# Altium integrated library Texas Instruments Interface USB.IntLib: 91 symbols (part 1 of 12)
Pins are listed as number, name and electrical type; pins without a type are passive.

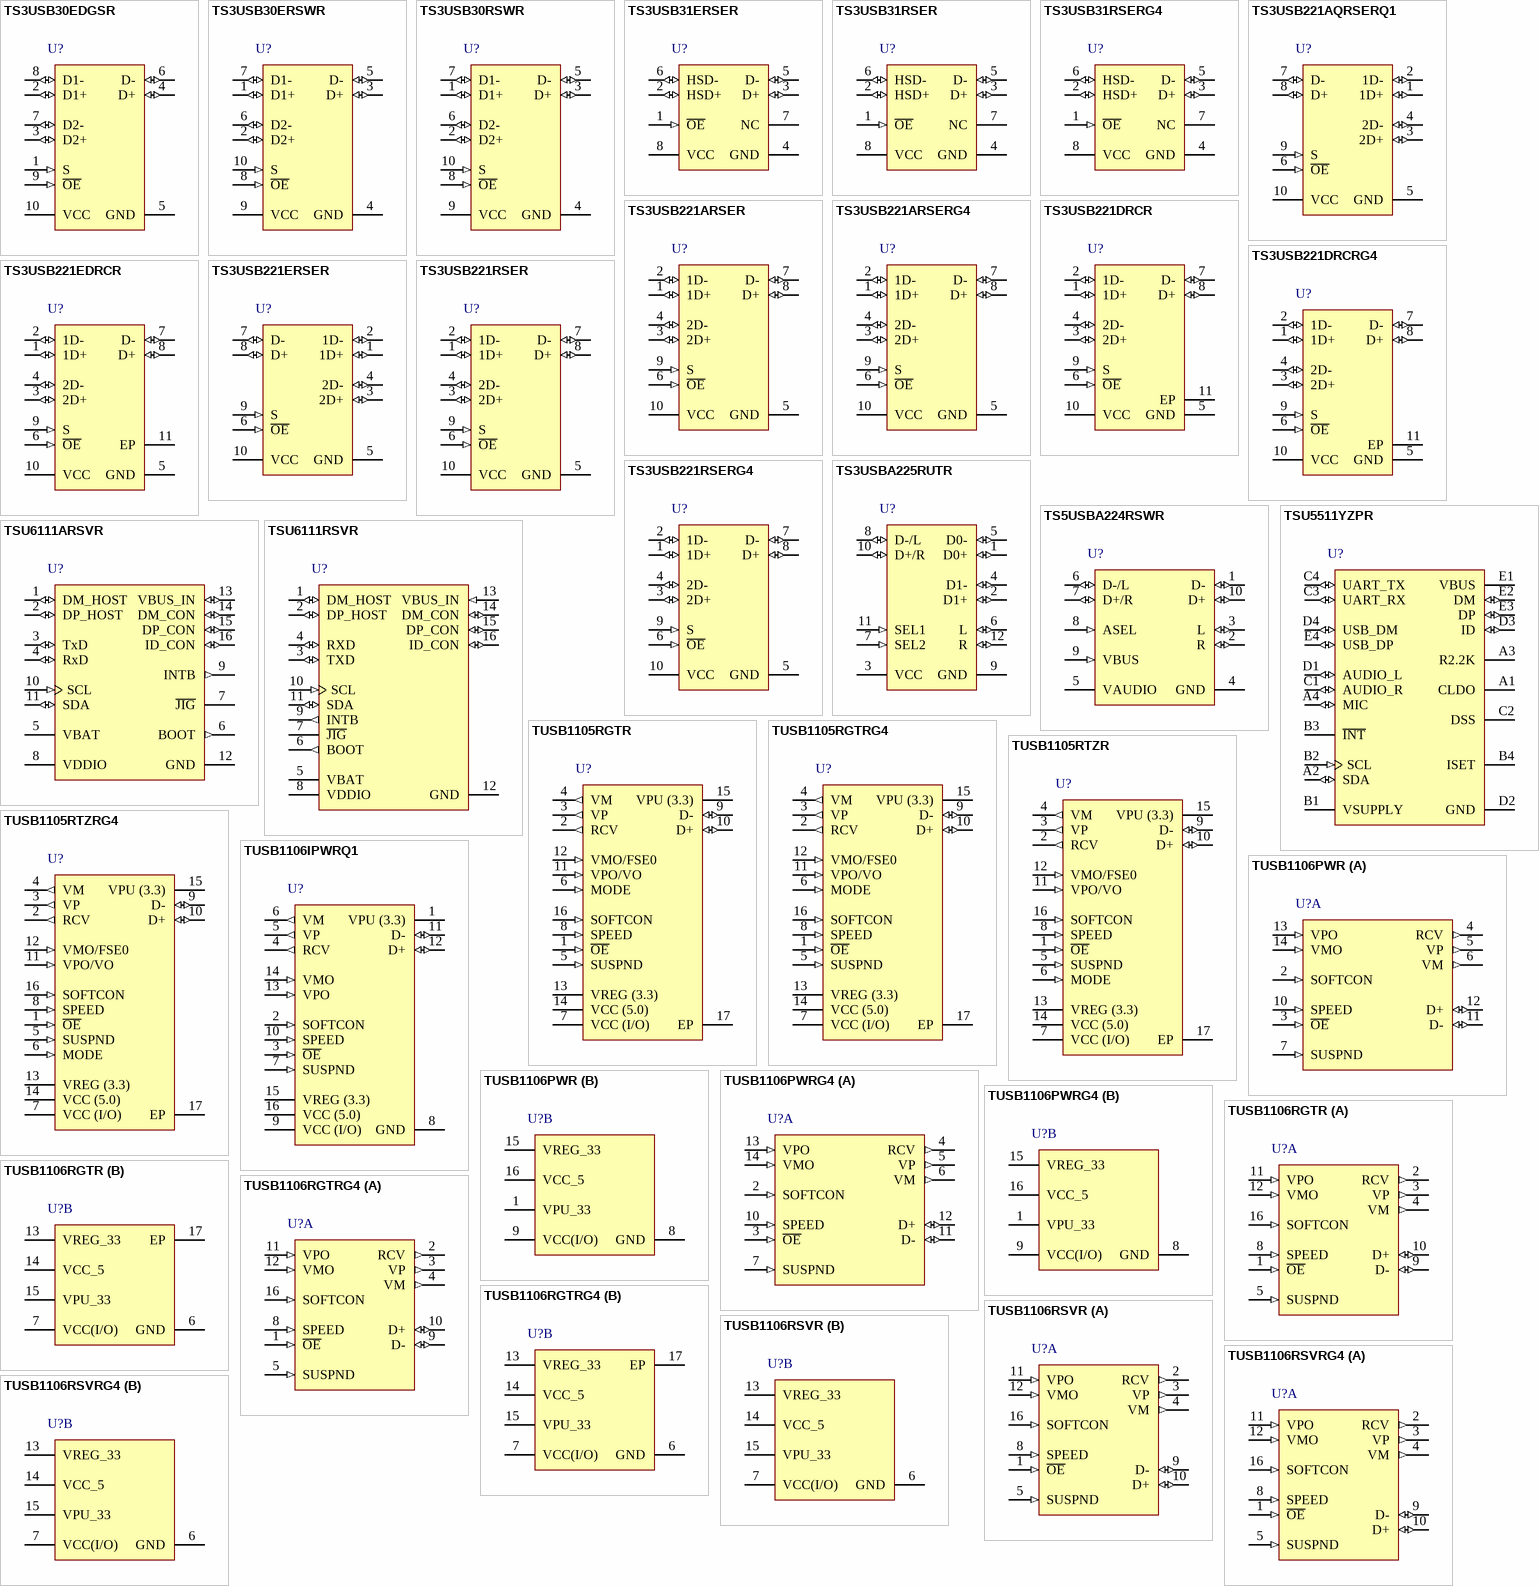
[diagram p0: symbols TS3USB30EDGSR to TUSB1106RSVRG4]

## TS3USB30EDGSR
designator U?
High-Speed USB 2.0 (480-Mbps) 1:2 Multiplexer / Demultiplexer Switch with Single, 10 ohm RON, 3.0 to 4.3V, -40 to 85 degC, 10-Pin MSOP (DGS), Green (RoHS & no Sb/Br); PartNumber: TS3USB30EDGSR; Manufacturer: Texas Instruments; SubFamily: USB Switch; Number of Channels: 2; Architecture: 1; ESD HBM(kV): +/-8; OFF Time(Max)(ns): 30; tpd max(ns): 0.25; ron(max)(ohms): 10; RON Mis-match(Max)(Ohms): 0.35; Bandwidth(MHz): 900; ON Time(Max)(ns): 25; DatasheetVersion: SCDS255D; PackageVersion: revC, Feb-2004; PackageReference: DGS10; PackageDescription: 10-Pin Thin Shrink Small Outline Package 0.5 mm Pitch; Mounting Technology: Surface Mount; Eco-Plan: Green (RoHS & no Sb/Br); ICC(uA): 1; Vcc range(V): 3.0 to 4.3; IL OFF(Max)(nA): 2; RON Flatness(Max)(Ohms): 2; Code_JEDEC: MO-187-BA; ComponentLink1Description: Datasheet; ComponentLink1URL: http://www.ti.com/general/docs/lit/getliterature.tsp?genericPartNumber=TS3USB30E&fileType=pdf; ComponentLink2Description: Package Specification; ComponentLink2URL: http://www.ti.com/litv/pdf/mpds035b
footprint DGS10_N (TSSOP, 10-Leads, Body 3x3mm, Pitch 0.5mm, IPC Medium Density)
footprint DGS10_L (TSSOP, 10-Leads, Body 3x3mm, Pitch 0.5mm, IPC High Density)
footprint DGS10_M (TSSOP, 10-Leads, Body 3x3mm, Pitch 0.5mm, IPC Low Density)
pins: 1 S (in) "Select input", 2 D1+ (io) "Data ports", 3 D2+ (io) "Data ports", 4 D+ (io) "Data ports", 5 GND (power), 6 D- (io) "Data ports", 7 D2- (io) "Data ports", 8 D1- (io) "Data ports", 9 ~{OE} (in) "Bus-switch enable", 10 VCC (power) "Power supply"

## TS3USB30ERSWR
designator U?
2 Channel USB Switch, 1:2 Mux / Demux, 10 ohm RON, 3.0 to 4.3V, -40 to 85 degC, 10-Pin UQFN (RSW), Green (RoHS & no Sb/Br); PartNumber: TS3USB30ERSWR; Manufacturer: Texas Instruments; Number of Channels: 2; Architecture: 1; ESD HBM(kV): +/-8; OFF Time(Max)(ns): 30; tpd max(ns): 0.25; ron(max)(ohms): 10; RON Mis-match(Max)(Ohms): 0.35; Bandwidth(MHz): 900; ON Time(Max)(ns): 25; DatasheetVersion: SCDS255D; PackageVersion: Jul-2008; PackageReference: RSW10; PackageDescription: 10-Lead Plastic Quad FlatPack, No-Lead 1.4x1.8x0.5mm Body, 0.4mm Pitch (R-PUQFN-N10); Mounting Technology: Surface Mount; Eco-Plan: Green (RoHS & no Sb/Br); SubFamily: USB Switch; ICC(uA): 1; Vcc range(V): 3.0 to 4.3; IL OFF(Max)(nA): 2; RON Flatness(Max)(Ohms): 2; Code_JEDEC: MO-288-UDEE; ComponentLink1Description: Datasheet; ComponentLink1URL: http://www.ti.com/general/docs/lit/getliterature.tsp?genericPartNumber=TS3USB30E&fileType=pdf; ComponentLink2Description: Package Specification; ComponentLink2URL: http://www.ti.com/lit/ml/mpqf206b/mpqf206b.pdf
footprint RSW10 (QFN, 10-Leads, Body 1.8x1.4 mm, Pitch 0.4mm, TI Recommended)
pins: 1 D1+ (io) "Data ports", 2 D2+ (io) "Data ports", 3 D+ (io) "Data ports", 4 GND (power), 5 D- (io) "Data ports", 6 D2- (io) "Data ports", 7 D1- (io) "Data ports", 8 ~{OE} (in) "Bus-switch enable", 9 VCC (power) "Power Supply", 10 S (in) "Select input"

## TS3USB30RSWR
designator U?
2 Channel USB Switch, 1:2 Mux / Demux, 10 ohm RON, 3.0 to 4.3V, -40 to 85 degC, 10-Pin UQFN (RSW), Green (RoHS & no Sb/Br); PartNumber: TS3USB30RSWR; Manufacturer: Texas Instruments; Number of Channels: 2; Architecture: 1; ESD HBM(kV): +/-2; OFF Time(Max)(ns): 30; tpd max(ns): 0.25; ron(max)(ohms): 10; RON Mis-match(Max)(Ohms): 0.35; Bandwidth(MHz): 955; ON Time(Max)(ns): 25; DatasheetVersion: SCDS237E; PackageVersion: Jul-2008; PackageReference: RSW10; PackageDescription: 10-Lead Plastic Quad FlatPack, No-Lead 1.4x1.8x0.5mm Body, 0.4mm Pitch (R-PUQFN-N10); Mounting Technology: Surface Mount; Eco-Plan: Green (RoHS & no Sb/Br); SubFamily: USB Switch; ICC(uA): 1; Vcc range(V): 3.0 to 4.3; IL OFF(Max)(nA): 2; Charge Injection(Max)(pC): N/A; RON Flatness(Max)(Ohms): 2; Code_JEDEC: MO-288-UDEE; ComponentLink1Description: Datasheet; ComponentLink1URL: http://www.ti.com/general/docs/lit/getliterature.tsp?genericPartNumber=TS3USB30&fileType=pdf; ComponentLink2Description: Package Specification; ComponentLink2URL: http://www.ti.com/lit/ml/mpqf206b/mpqf206b.pdf
footprint RSW10 (QFN, 10-Leads, Body 1.8x1.4 mm, Pitch 0.4mm, TI Recommended)
pins: 1 D1+ (io) "Data ports", 2 D2+ (io) "Data ports", 3 D+ (io) "Data ports", 4 GND (power), 5 D- (io) "Data ports", 6 D2- (io) "Data ports", 7 D1- (io) "Data ports", 8 ~{OE} (in) "Bus-switch enable", 9 VCC (power) "Power supply", 10 S (in) "Select input"

## TS3USB31ERSER
designator U?
2 Channel USB Switch, 1:1 Switch, 2 ohm RON, 2.25 to 4.3V, -40 to 85 degC, 8-Pin UQFN (RSE), Green (RoHS & no Sb/Br); PartNumber: TS3USB31ERSER; Manufacturer: Texas Instruments; Number of Channels: 2; Architecture: 1; ESD HBM(kV): +/-8; OFF Time(Max)(ns): 25; tpd max(ns): 0.25; ron(max)(ohms): 10; RON Mis-match(Max)(Ohms): 0.35; Bandwidth(MHz): 1100; ON Time(Max)(ns): 30; DatasheetVersion: SCDS256; PackageVersion: revD, Jan-2011; PackageReference: RSE8; PackageDescription: 8-Pin Plastic Quad Flatpack No-Lead, 1.5 x 1.5 mm Body, 0.5 mm Pitch; Mounting Technology: Surface Mount; Eco-Plan: Green (RoHS & no Sb/Br); SubFamily: USB Switch; Vcc range(V): 2.25 to 4.3; IL OFF(Max)(nA): 2; Charge Injection(Max)(pC): N/A; RON Flatness(Max)(Ohms): 2; Code_JEDEC: MO-288; ComponentLink1Description: Datasheet; ComponentLink1URL: http://www.ti.com/general/docs/lit/getliterature.tsp?genericPartNumber=TS3USB31E&fileType=pdf; ComponentLink2Description: Package Specification; ComponentLink2URL: http://www.ti.com/lit/ml/mpqf207b/mpqf207b.pdf
footprint RSE8 (QFN, 8-Leads, Body 1.5x1.5mm, Pitch 0.5mm, TI Recommended)
pins: 1 ~{OE} (in) "Bus-switch enable", 2 HSD+ (io) "Data ports", 3 D+ (io) "Data ports", 4 GND (power) "Supply ground", 5 D- (io) "Data ports", 6 HSD- (io) "Data ports", 7 NC "No connect", 8 VCC (power) "Supply voltage"

## TS3USB31RSER
designator U?
High-Speed USB 2.0 (480-Mbps) 1-Port Switch with Single Enable, 10 Ohm RON, -40 to 85 degC, 8-Pin DSBGA (YZP), Green (RoHS & no Sb/Br); PartNumber: TS3USB31RSER; Manufacturer: Texas Instruments; SubFamily: USB Switch; Number of Channels: 2; Architecture: 1; ESD HBM(kV): +/-2; OFF Time(Max)(ns): 30; Vcc range(V): 3.0 to 4.3; tpd max(ns): 0.25; ron(max)(ohms): 10; RON Mis-match(Max)(Ohms): 0.35; Bandwidth(MHz): 1200; ON Time(Max)(ns): 25; DatasheetVersion: SCDS242D; PackageVersion: revD, Jan-2011; PackageReference: RSE8; PackageDescription: 8-Pin Plastic Quad Flatpack No-Lead, 1.5 x 1.5 mm Body, 0.5 mm Pitch; Mounting Technology: Surface Mount; Eco-Plan: Green (RoHS & no Sb/Br); ICC(uA): 1; IL OFF(Max)(nA): 2; Charge Injection(Max)(pC): N/A; RON Flatness(Max)(Ohms): 2; Code_JEDEC: MO-288; ComponentLink1Description: Datasheet; ComponentLink1URL: http://www.ti.com/general/docs/lit/getliterature.tsp?genericPartNumber=TS3USB31&fileType=pdf; ComponentLink2Description: Package Specification; ComponentLink2URL: http://www.ti.com/lit/ml/mpqf207b/mpqf207b.pdf
footprint RSE8 (QFN, 8-Leads, Body 1.5x1.5mm, Pitch 0.5mm, TI Recommended)
pins: 1 ~{OE} (in) "Bus-switch enable", 2 HSD+ (io) "Data ports", 3 D+ (io) "Data ports", 4 GND (power) "Ground", 5 D- (io) "Data ports", 6 HSD- (io) "Data ports", 7 NC "No connect", 8 VCC (power) "Power supply"

## TS3USB31RSERG4
designator U?
2 Channel USB Switch, 1:1 Switch, 2 ohm RON, 3.0 to 4.3V, -40 to 85 degC, 8-Pin UQFN (RSE), Green (RoHS & no Sb/Br); PartNumber: TS3USB31RSERG4; Manufacturer: Texas Instruments; Number of Channels: 2; Architecture: 1; ESD HBM(kV): +/-2; OFF Time(Max)(ns): 30; tpd max(ns): 0.25; ron(max)(ohms): 10; RON Mis-match(Max)(Ohms): 0.35; Bandwidth(MHz): 1200; ON Time(Max)(ns): 25; DatasheetVersion: SCDS242D; PackageVersion: revD, Jan-2011; PackageReference: RSE8; PackageDescription: 8-Pin Plastic Quad Flatpack No-Lead, 1.5 x 1.5 mm Body, 0.5 mm Pitch; Mounting Technology: Surface Mount; Eco-Plan: Green (RoHS & no Sb/Br); SubFamily: USB Switch; ICC(uA): 1; Vcc range(V): 3.0 to 4.3; IL OFF(Max)(nA): 2; Charge Injection(Max)(pC): N/A; RON Flatness(Max)(Ohms): 2; Code_JEDEC: MO-288; ComponentLink1Description: Datasheet; ComponentLink1URL: http://www.ti.com/general/docs/lit/getliterature.tsp?genericPartNumber=TS3USB31&fileType=pdf; ComponentLink2Description: Package Specification; ComponentLink2URL: http://www.ti.com/lit/ml/mpqf207b/mpqf207b.pdf
footprint RSE8 (QFN, 8-Leads, Body 1.5x1.5mm, Pitch 0.5mm, TI Recommended)
pins: 1 ~{OE} (in) "Bus-switch enable", 2 HSD+ (io) "Data ports", 3 D+ (io) "Data ports", 4 GND (power) "Ground", 5 D- (io) "Data ports", 6 HSD- (io) "Data ports", 7 NC "No connect", 8 VCC (power) "Power supply"

## TS3USB221AQRSERQ1
designator U?
Automotive Catalog ESD Protected, High-Speed USB 2.0 (480-Mbps) 1:2 Multiplexer / Demultiplexer Switch, 16 ohm RON, 2.5 to 3.3V, -40 to 125 degC, 10-Pin UQFN (RSE), Green (RoHS & no Sb/Br); PartNumber: TS3USB221AQRSERQ1; Manufacturer: Texas Instruments; SubFamily: USB Switch; Number of Channels: 2; Architecture: 1; ESD HBM(kV): +/-7; ICC(uA): 30; tpd max(ns): 0.25; ron(max)(ohms): 16; RON Mis-match(Max)(Ohms): 0.2; Bandwidth(MHz): 900; ON Time(Max)(ns): 12; DatasheetVersion: SCDS300B; PackageVersion: revD, Jan-2011; PackageReference: RSE10; PackageDescription: 10-Leads Plastic Quad Flatpack No-Lead, 2 x 1.5 x 0.55 mm Body, 0.5 mm Pitch; Mounting Technology: Surface Mount; Eco-Plan: Green (RoHS & no Sb/Br); OFF Time(Max)(ns): 30; IL OFF(Max)(nA): 2; RON Flatness(Max)(Ohms): 1; Code_JEDEC: MO-288-UEFD; ComponentLink1Description: Datasheet; ComponentLink1URL: http://www.ti.com/general/docs/lit/getliterature.tsp?genericPartNumber=TS3USB221A-Q1&fileType=pdf; ComponentLink2Description: Package Specification; ComponentLink2URL: http://www.ti.com/lit/ml/mpqf186c/mpqf186c.pdf
footprint RSE10 (QFN, 10-Leads, Body 1.5x2mm, Pitch 0.5mm, TI Recommended)
pins: 1 1D+ (io) "Bus B", 2 1D- (io) "Bus B", 3 2D+ (io) "Bus B", 4 2D- (io) "Bus B", 5 GND (power) "Ground", 6 ~{OE} (in) "Bus-switch enable", 7 D- (io) "Bus A", 8 D+ (io) "Bus A", 9 S (in) "Select input", 10 VCC (power) "Power supply"

## TS3USB221ARSER
designator U?
ESD Protected,High-Speed USB 2.0 (480-Mbps) 1:2 Multiplexer / Demultiplexer Switch, 1:2 Mux / Demux, 6 ohm RON, 2.5 to 3.3V, -40 to 85 degC, 10-Pin UQFN (RSE), Green (RoHS & no Sb/Br); PartNumber: TS3USB221ARSER; Manufacturer: Texas Instruments; SubFamily: USB Switch; Number of Channels: 2; Architecture: 1; ESD HBM(kV): +/-7; ICC(uA): 30; OFF Time(Max)(ns): 12; Vcc range(V): 2.3 to 3.6; tpd max(ns): 0.25; ron(max)(ohms): 6; RON Mis-match(Max)(Ohms): 0.2; Bandwidth(MHz): 900; DatasheetVersion: SCDS277; PackageVersion: revD, Jan-2011; PackageReference: RSE10; PackageDescription: 10-Leads Plastic Quad Flatpack No-Lead, 2 x 1.5 x 0.55 mm Body, 0.5 mm Pitch; Mounting Technology: Surface Mount; Eco-Plan: Green (RoHS & no Sb/Br); IL OFF(Max)(nA): 2; RON Flatness(Max)(Ohms): 1; ON Time(Max)(ns): 30; Code_JEDEC: MO-288-UEFD; ComponentLink1Description: Datasheet; ComponentLink1URL: http://www.ti.com/general/docs/lit/getliterature.tsp?genericPartNumber=TS3USB221A&fileType=pdf; ComponentLink2Description: Package Specification; ComponentLink2URL: http://www.ti.com/lit/ml/mpqf186c/mpqf186c.pdf
footprint RSE10 (QFN, 10-Leads, Body 1.5x2mm, Pitch 0.5mm, TI Recommended)
pins: 1 1D+ (io) "Bus B", 2 1D- (io) "Bus B", 3 2D+ (io) "Bus B", 4 2D- (io) "Bus B", 5 GND (power), 6 ~{OE} (in) "Bus-switch enable", 7 D- (io) "Bus A", 8 D+ (io) "Bus A", 9 S (in) "Select input", 10 VCC (power) "Power supply"

## TS3USB221ARSERG4
designator U?
ESD Protected, High-Speed USB 2.0 (480-Mbps) 1:2 Multiplexer / Demultiplexer Switch, 6 ohm RON, 2.5 to 3.3V, -40 to 85 degC, 10-Pin UQFN (RSE), Green (RoHS & no Sb/Br); PartNumber: TS3USB221ARSERG4; Manufacturer: Texas Instruments; SubFamily: USB Switch; Number of Channels: 2; Architecture: 1; ESD HBM(kV): +/-7; ICC(uA): 30; OFF Time(Max)(ns): 12; Vcc range(V): 2.3 to 3.6; tpd max(ns): 0.25; ron(max)(ohms): 6; RON Mis-match(Max)(Ohms): 0.2; Bandwidth(MHz): 900; DatasheetVersion: SCDS277; PackageVersion: revD, Jan-2011; PackageReference: RSE10; PackageDescription: 10-Leads Plastic Quad Flatpack No-Lead, 2 x 1.5 x 0.55 mm Body, 0.5 mm Pitch; Mounting Technology: Surface Mount; Eco-Plan: Green (RoHS & no Sb/Br); IL OFF(Max)(nA): 2; RON Flatness(Max)(Ohms): 1; ON Time(Max)(ns): 30; Code_JEDEC: MO-288-UEFD; ComponentLink1Description: Datasheet; ComponentLink1URL: http://www.ti.com/general/docs/lit/getliterature.tsp?genericPartNumber=TS3USB221A&fileType=pdf; ComponentLink2Description: Package Specification; ComponentLink2URL: http://www.ti.com/lit/ml/mpqf186c/mpqf186c.pdf
footprint RSE10 (QFN, 10-Leads, Body 1.5x2mm, Pitch 0.5mm, TI Recommended)
pins: 1 1D+ (io) "Bus B", 2 1D- (io) "Bus B", 3 2D+ (io) "Bus B", 4 2D- (io) "Bus B", 5 GND (power), 6 ~{OE} (in) "Bus-switch enable", 7 D- (io) "Bus A", 8 D+ (io) "Bus A", 9 S (in) "Select input", 10 VCC (power) "Power supply"

## TS3USB221DRCR
designator U?
High-Speed USB 2.0 (480 Mbps) 1:2 Multiplexer / Demultiplexer Switch with Single Enable, 6 ohm RON, 2.5 to 3.3V, -40 to 85 degC, 10-Pin SON (DRC), Green (RoHS & no Sb/Br); PartNumber: TS3USB221DRCR; Manufacturer: Texas Instruments; SubFamily: USB Switch; Number of Channels: 2; Architecture: 1; ESD HBM(kV): +/-2; ICC(uA): 30; OFF Time(Max)(ns): 12; Vcc range(V): 2.3 to 3.6; tpd max(ns): 0.25; ron(max)(ohms): 6; RON Mis-match(Max)(Ohms): 0.2; Bandwidth(MHz): 1200; DatasheetVersion: SCDS220G; PackageVersion: revL, Sep-2011; PackageReference: DRC10-2400X1650TP; PackageDescription: 10-Pin Plastic Small Outline No-Lead, 3 x 3 x 1 mm Body, 0.5 mm Pitch, Exposed Pad; Mounting Technology: Surface Mount; Eco-Plan: Green (RoHS & no Sb/Br); IL OFF(Max)(nA): 2; Charge Injection(Max)(pC): N/A; RON Flatness(Max)(Ohms): 1; ON Time(Max)(ns): 30; ComponentLink1Description: Datasheet; ComponentLink1URL: http://www.ti.com/general/docs/lit/getliterature.tsp?genericPartNumber=TS3USB221&fileType=pdf; ComponentLink2Description: Package Specification; ComponentLink2URL: http://www.ti.com/litv/pdf/mpds117k
footprint DRC10-2400X1650TP (SON, 10-Leads, Body 3x3mm, Pitch 0.5mm, Thermal Pad 2.4x1.65mm, TI Recommended)
pins: 1 1D+ (io) "Bus B", 2 1D- (io) "Bus B", 3 2D+ (io) "Bus B", 4 2D- (io) "Bus B", 5 GND (power) "ground", 6 ~{OE} (in) "Bus-switch enable", 7 D- (io) "Bus A", 8 D+ (io) "Bus A", 9 S (in) "Select input", 10 VCC (power) "supply voltage", 11 EP "Exposed pad"

## TS3USB221DRCRG4
designator U?
High-Speed USB 2.0 (480 Mbps) 1:2 Multiplexer / Demultiplexer Switch with Single Enable, 1:2 Mux / Demux, 6 ohm RON, 2.5 to 3.3V, -40 to 85 degC, 10-Pin SON (DRC), Green (RoHS & no Sb/Br); PartNumber: TS3USB221DRCRG4; Manufacturer: Texas Instruments; SubFamily: USB Switch; Number of Channels: 2; Architecture: 1; ESD HBM(kV): +/-2; ICC(uA): 30; OFF Time(Max)(ns): 12; Vcc range(V): 2.3 to 3.6; tpd max(ns): 0.25; ron(max)(ohms): 6; RON Mis-match(Max)(Ohms): 0.2; Bandwidth(MHz): 1200; DatasheetVersion: SCDS220G; PackageVersion: revL, Sep-2011; PackageReference: DRC10-2400X1650TP; PackageDescription: 10-Pin Plastic Small Outline No-Lead, 3 x 3 x 1 mm Body, 0.5 mm Pitch, Exposed Pad; Mounting Technology: Surface Mount; Eco-Plan: Green (RoHS & no Sb/Br); IL OFF(Max)(nA): 2; Charge Injection(Max)(pC): N/A; RON Flatness(Max)(Ohms): 1; ON Time(Max)(ns): 30; ComponentLink1Description: Datasheet; ComponentLink1URL: http://www.ti.com/general/docs/lit/getliterature.tsp?genericPartNumber=TS3USB221&fileType=pdf; ComponentLink2Description: Package Specification; ComponentLink2URL: http://www.ti.com/litv/pdf/mpds117k
footprint DRC10-2400X1650TP (SON, 10-Leads, Body 3x3mm, Pitch 0.5mm, Thermal Pad 2.4x1.65mm, TI Recommended)
pins: 1 1D+ (io) "Bus B", 2 1D- (io) "Bus B", 3 2D+ (io) "Bus B", 4 2D- (io) "Bus B", 5 GND (power) "ground", 6 ~{OE} (in) "Bus-switch enable", 7 D- (io) "Bus A", 8 D+ (io) "Bus A", 9 S (in) "Select input", 10 VCC (power) "supply voltage", 11 EP "Exposed pad"

## TS3USB221EDRCR
designator U?
High-Speed USB 2.0 (480-Mbps) 1:2 Multiplexer / Demultiplexer Switch with Single Enable, 6 ohm RON, -40 to 85 degC, 10-Pin SON (DRC), Green (RoHS & no Sb/Br); PartNumber: TS3USB221EDRCR; Manufacturer: Texas Instruments; SubFamily: USB Switch; Number of Channels: 2; Architecture: 1; ESD HBM(kV): +/-7; OFF Time(Max)(ns): 30; Vcc range(V): 2.3 to 3.6; tpd max(ns): 0.25; ron(max)(ohms): 6; RON Mis-match(Max)(Ohms): 0.2; Bandwidth(MHz): 1200; ON Time(Max)(ns): 5; DatasheetVersion: SCDS263A; PackageVersion: revL, Sep-2011; PackageReference: DRC10-2400X1650TP; PackageDescription: 10-Pin Plastic Small Outline No-Lead, 3 x 3 x 1 mm Body, 0.5 mm Pitch, Exposed Pad; Mounting Technology: Surface Mount; Eco-Plan: Green (RoHS & no Sb/Br); IL OFF(Max)(nA): 2; RON Flatness(Max)(Ohms): 1; ComponentLink1Description: Datasheet; ComponentLink1URL: http://www.ti.com/general/docs/lit/getliterature.tsp?genericPartNumber=TS3USB221E&fileType=pdf; ComponentLink2Description: Package Specification; ComponentLink2URL: http://www.ti.com/litv/pdf/mpds117k
footprint DRC10-2400X1650TP (SON, 10-Leads, Body 3x3mm, Pitch 0.5mm, Thermal Pad 2.4x1.65mm, TI Recommended)
pins: 1 1D+ (io) "Bus B", 2 1D- (io) "Bus B", 3 2D+ (io) "Bus B", 4 2D- (io) "Bus B", 5 GND (power), 6 ~{OE} (in) "Bus-switch enable", 7 D- (io) "Bus A", 8 D+ (io) "Bus A", 9 S (in) "Select input", 10 VCC (power) "Power supply", 11 EP "Exposed pad"

## TS3USB221ERSER
designator U?
High-Speed USB 2.0 (480 Mbps) 1:2 Multiplexer / Demultiplexer Switch with Single Enable, 6 ohm RON, 2.5 to 3.3V, -40 to 85 degC, 10-Pin UQFN (RSE), Green (RoHS & no Sb/Br); PartNumber: TS3USB221ERSER; Manufacturer: Texas Instruments; SubFamily: USB Switch; Number of Channels: 2; Architecture: 1; ESD HBM(kV): +/-7; OFF Time(Max)(ns): 30; Vcc range(V): 2.3 to 3.6; tpd max(ns): 0.25; ron(max)(ohms): 6; RON Mis-match(Max)(Ohms): 0.2; Bandwidth(MHz): 1200; ON Time(Max)(ns): 5; DatasheetVersion: SCDS263A; PackageVersion: revD, Jan-2011; PackageReference: RSE10; PackageDescription: 10-Leads Plastic Quad Flatpack No-Lead, 2 x 1.5 x 0.55 mm Body, 0.5 mm Pitch; Mounting Technology: Surface Mount; Eco-Plan: Green (RoHS & no Sb/Br); IL OFF(Max)(nA): 2; RON Flatness(Max)(Ohms): 1; Code_JEDEC: MO-288-UEFD; ComponentLink1Description: Datasheet; ComponentLink1URL: http://www.ti.com/general/docs/lit/getliterature.tsp?genericPartNumber=TS3USB221E&fileType=pdf; ComponentLink2Description: Package Specification; ComponentLink2URL: http://www.ti.com/lit/ml/mpqf186c/mpqf186c.pdf
footprint RSE10 (QFN, 10-Leads, Body 1.5x2mm, Pitch 0.5mm, TI Recommended)
pins: 1 1D+ (io) "Bus B", 2 1D- (io) "Bus B", 3 2D+ (io) "Bus B", 4 2D- (io) "Bus B", 5 GND (power), 6 ~{OE} (in) "Bus-switch enable", 7 D- (io) "Bus A", 8 D+ (io) "Bus A", 9 S (in) "Select input", 10 VCC (power)

## TS3USB221RSER
designator U?
High-Speed USB 2.0 (480 Mbps) 1:2 Multiplexer / Demultiplexer Switch with Single Enable, 6 ohm RON, 2.5 to 3.3V, -40 to 85 degC, 10-Pin UQFN (RSE), Green (RoHS & no Sb/Br); PartNumber: TS3USB221RSER; Manufacturer: Texas Instruments; SubFamily: USB Switch; Number of Channels: 2; Architecture: 1; ESD HBM(kV): +/-2; ICC(uA): 30; OFF Time(Max)(ns): 12; Vcc range(V): 2.3 to 3.6; tpd max(ns): 0.25; ron(max)(ohms): 6; RON Mis-match(Max)(Ohms): 0.2; Bandwidth(MHz): 1200; DatasheetVersion: SCDS220G; PackageVersion: revD, Jan-2011; PackageReference: RSE10; PackageDescription: 10-Leads Plastic Quad Flatpack No-Lead, 2 x 1.5 x 0.55 mm Body, 0.5 mm Pitch; Mounting Technology: Surface Mount; Eco-Plan: Green (RoHS & no Sb/Br); IL OFF(Max)(nA): 2; Charge Injection(Max)(pC): N/A; RON Flatness(Max)(Ohms): 1; ON Time(Max)(ns): 30; Code_JEDEC: MO-288-UEFD; ComponentLink1Description: Datasheet; ComponentLink1URL: http://www.ti.com/general/docs/lit/getliterature.tsp?genericPartNumber=TS3USB221&fileType=pdf; ComponentLink2Description: Package Specification; ComponentLink2URL: http://www.ti.com/lit/ml/mpqf186c/mpqf186c.pdf
footprint RSE10 (QFN, 10-Leads, Body 1.5x2mm, Pitch 0.5mm, TI Recommended)
pins: 1 1D+ (io) "Bus B", 2 1D- (io) "Bus B", 3 2D+ (io) "Bus B", 4 2D- (io) "Bus B", 5 GND (power) "ground", 6 ~{OE} (in) "Bus-switch enable", 7 D- (io) "Bus A", 8 D+ (io) "Bus A", 9 S (in) "Select input", 10 VCC (power) "supply voltage"

## TS3USB221RSERG4
designator U?
High-Speed USB 2.0 (480 Mbps) 1:2 Multiplexer / Demultiplexer Switch with Single Enable, SP4T, 6 ohm RON, 2.5 to 3.3V, -40 to 85 degC, 10-Pin UQFN (RSE), Green (RoHS & no Sb/Br); PartNumber: TS3USB221RSERG4; Manufacturer: Texas Instruments; SubFamily: USB Switch; Number of Channels: 2; Architecture: 1; ESD HBM(kV): +/-2; ICC(uA): 30; OFF Time(Max)(ns): 12; Vcc range(V): 2.3 to 3.6; tpd max(ns): 0.25; ron(max)(ohms): 6; RON Mis-match(Max)(Ohms): 0.2; Bandwidth(MHz): 1200; DatasheetVersion: SCDS220G; PackageVersion: revD, Jan-2011; PackageReference: RSE10; PackageDescription: 10-Leads Plastic Quad Flatpack No-Lead, 2 x 1.5 x 0.55 mm Body, 0.5 mm Pitch; Mounting Technology: Surface Mount; Eco-Plan: Green (RoHS & no Sb/Br); IL OFF(Max)(nA): 2; Charge Injection(Max)(pC): N/A; RON Flatness(Max)(Ohms): 1; ON Time(Max)(ns): 30; Code_JEDEC: MO-288-UEFD; ComponentLink1Description: Datasheet; ComponentLink1URL: http://www.ti.com/general/docs/lit/getliterature.tsp?genericPartNumber=TS3USB221&fileType=pdf; ComponentLink2Description: Package Specification; ComponentLink2URL: http://www.ti.com/lit/ml/mpqf186c/mpqf186c.pdf
footprint RSE10 (QFN, 10-Leads, Body 1.5x2mm, Pitch 0.5mm, TI Recommended)
pins: 1 1D+ (io) "Bus B", 2 1D- (io) "Bus B", 3 2D+ (io) "Bus B", 4 2D- (io) "Bus B", 5 GND (power) "ground", 6 ~{OE} (in) "Bus-switch enable", 7 D- (io) "Bus A", 8 D+ (io) "Bus A", 9 S (in) "Select input", 10 VCC (power) "supply voltage"

## TS3USBA225RUTR
designator U?
USB 2.0 High-Speed (480 Mbps) and Audio Switch, DP3T, 6.5 ohm RON, -40 to 85 degC, 12-Pin UQFN (RUT), Green (RoHS & no Sb/Br); PartNumber: TS3USBA225RUTR; Manufacturer: Texas Instruments; SubFamily: USB Switch; Number of Channels: 3; ESD HBM(kV): 2; ICC(uA): 25; OFF Time(Max)(ns): 20; Vcc range(V): 2.7 to 4.3; IL OFF(Max)(nA): +/-1000; RON Flatness(Max)(Ohms): 0.1; Bandwidth(MHz): 1900; ON Time(Max)(ns): 60; DatasheetVersion: SCDS328; PackageVersion: revB, Mar-2010; PackageReference: RUT12; PackageDescription: 12-Leads Plastic Quad Flatpack No-Lead, 2 x 1.7 x 0.5 mm Body, 0.4 mm Pitch; Mounting Technology: Surface Mount; Eco-Plan: Green (RoHS & no Sb/Br); Architecture: DP3T; RON Mis-match(Max)(Ohms): 0.1; ComponentLink1Description: Datasheet; ComponentLink1URL: http://www.ti.com/general/docs/lit/getliterature.tsp?genericPartNumber=TS3USBA225&fileType=pdf; ComponentLink2Description: Package Specification; ComponentLink2URL: http://www.ti.com/lit/ml/mpqf248a/mpqf248a.pdf
footprint RUT12 (QFN, 12-Leads, Body 1.7x2mm, Pitch 0.4mm, TI Recommended)
pins: 1 D0+ (io) "USB/UART Data 1 (Differential +)", 2 D1+ (io) "USB/UART Data 2 (Differential +)", 3 VCC (power) "Power supply", 4 D1- (io) "USB/UART Data 2 (Differential -)", 5 D0- (io) "USB/UART Data 1 (Differential -)", 6 L (io) "Left Channel Audio", 7 SEL2 (in) "Control Input Select Line 2. The default state for SEL2 is LOW.", 8 D-/L (io) "USB/UART/Audio Common Connector", 9 GND (power) "Ground", 10 D+/R (io) "USB/UART/Audio Common Connector", 11 SEL1 (in) "Control Input Select Line 1. The default state for SEL1 is LOW.", 12 R (io) "Right Channel Audio"

## TS5USBA224RSWR
designator U?
USB 2.0 High-Speed (480Mbps) and Audio Switches with Negative Signal Capability,3 / 4 ohm RON, -40 to 85 degC, 10-Pin UQFN (RSW), Green (RoHS & no Sb/Br); PartNumber: TS5USBA224RSWR; Manufacturer: Texas Instruments; SubFamily: USB Switch; Number of Channels: 2; Architecture: 1; ICC(uA): 6; OFF Time(Max)(ns): 1000; Vcc range(V): 2.7 to 5.5; IL OFF(Max)(nA): +/-50; RON Flatness(Max)(Ohms): 1.5; RON Mis-match(Max)(Ohms): 0.3; Bandwidth(MHz): 650; ON Time(Max)(ns): 4000; DatasheetVersion: SCDS306; PackageVersion: Jul-2008; PackageReference: RSW10; PackageDescription: 10-Lead Plastic Quad FlatPack, No-Lead 1.4x1.8x0.5mm Body, 0.4mm Pitch (R-PUQFN-N10); Mounting Technology: Surface Mount; Eco-Plan: Green (RoHS & no Sb/Br); ESD HBM(kV): 2; ron(max)(ohms): 04/03/2012; Code_JEDEC: MO-288-UDEE; ComponentLink1Description: Datasheet; ComponentLink1URL: http://www.ti.com/general/docs/lit/getliterature.tsp?genericPartNumber=TS5USBA224&fileType=pdf; ComponentLink2Description: Package Specification; ComponentLink2URL: http://www.ti.com/lit/ml/mpqf206b/mpqf206b.pdf
footprint RSW10 (QFN, 10-Leads, Body 1.8x1.4 mm, Pitch 0.4mm, TI Recommended)
pins: 1 D- (io) "USB Data (Differential ?", 2 R (io) "Right Channel Audio", 3 L (io) "Left Channel Audio", 4 GND (power) "Ground", 5 VAUDIO (power) "Supply Voltage", 6 D-/L (io) "USB/Audio Common Connector", 7 D+/R (io) "USB/Audio Common Connector", 8 ASEL (in) "Control Input for Audio Path", 9 VBUS (in) "Control Input for USB Path", 10 D+ (io) "USB Data (Differential +)"

## TSU5511YZPR
designator U?
SP3T Switch with Impedance Detection Micro-USB Switch, 10 ohm RON, 1.8V, -40 to 85 degC, 20-Pin DSBGA (YZP), Green (RoHS & no Sb/Br); PartNumber: TSU5511YZPR; Manufacturer: Texas Instruments; ESD HBM(kV): 2; ICC(uA): 15; OFF Time(Max)(ns): 75, 000; IL OFF(Max)(nA): 25; ron(max)(ohms): 10; RON Flatness(Max)(Ohms): 0.5; Bandwidth(MHz): 830; ON Time(Max)(ns): 120; DatasheetVersion: SCDS304; PackageVersion: revI, Feb-2012; PackageReference: YZP20; PackageDescription: 20-Ball Die-Size Ball Grid Array, 2.4 x 1.9 mm Body, 0.5 mm Pitch, Pb-Free; Mounting Technology: Surface Mount; Eco-Plan: Green (RoHS & no Sb/Br); SubFamily: USB Switch; Architecture: SP3T; Charge Injection(Max)(pC): N/A; ComponentLink1Description: Datasheet; ComponentLink1URL: http://www.ti.com/general/docs/lit/getliterature.tsp?genericPartNumber=TSU5511&fileType=pdf; ComponentLink2Description: Package Specification; ComponentLink2URL: http://www.ti.com/lit/ml/mxbg100b/mxbg100b.pdf
footprint YZP20 (BGA, 20-Leads, Body 2.4x1.9mm, Pitch 0.5mm)
pins: A1 CLDO "Capacitor connection for LDO noise filtering", A2 SDA (io) "I2C data. Connect an external pullup resistor.", A3 R2.2K "2.21 k ohm connection for microphone bias", A4 MIC (io) "Microphone signal", B1 VSUPPLY (power) "2.8-V to 4.4-V battery supply voltage", B2 SCL (in) "I2C clock input. Connect an external pullup resistor.", B3 ~{INT} (oc) "Open-drain interrupt output. Connect an external pullup resistor", B4 ISET (oc) "Output to charger for high-current charging mode. Open-drain output.", C1 AUDIO_R (io) "Stereo audio right channel", C2 DSS "Pulldown or pullup resistor connection to determine default switch", C3 UART_RX (io) "UART receive data", C4 UART_TX (io) "UART transmit data", D1 AUDIO_L (io) "Stereo audio left channel", D2 GND (power) "Ground", D3 ID (io) "Common I/O port for microphone, ID detection", D4 USB_DM (io) "USB D-  connected to host", E1 VBUS (power) "VBUS power supply from USB receptacle", E2 DM (io) "Common I/O port for USB, UART, Audio. Connected to USB receptacle.", E3 DP (io) "Common I/O port for USB, UART, Audio. Connected to USB receptacle.", E4 USB_DP (io) "USB D+ connected to host"

## TSU6111ARSVR
designator U?
Dual SP2T Micro-USB Switch with Integrated Impedance and Charger Detection, 8 Ohm RON, -40 to 85 degC, 16-Pin UQFN (RSV), Green (RoHS & no Sb/Br); PartNumber: TSU6111ARSVR; Manufacturer: Texas Instruments; Number of Channels: 2; ICC(uA): 75; OFF Time(Max)(ns): 3500; IL OFF(Max)(nA): 45; ron(max)(ohms): 8; RON Flatness(Max)(Ohms): 0.5; Bandwidth(MHz): 920; ON Time(Max)(ns): 95000; DatasheetVersion: SCDS331; PackageVersion: revD, Dec-2011; PackageReference: RSV16; PackageDescription: 16-Leads Plastic Quad Flatpack No-Lead, 2.6 x 1.8 x 0.5 mm Body, 0.4 mm Pitch; Mounting Technology: Surface Mount; Eco-Plan: Green (RoHS & no Sb/Br); SubFamily: USB Switch; Architecture: SP2T; ESD HBM(kV): 2; Code_JEDEC: MO-288*; ComponentLink1Description: Datasheet; ComponentLink1URL: http://www.ti.com/general/docs/lit/getliterature.tsp?genericPartNumber=TSU6111A&fileType=pdf; ComponentLink2Description: Package Specification; ComponentLink2URL: http://www.ti.com/lit/ml/mpqf205c/mpqf205c.pdf
footprint RSV16 (QFN, 16-Leads, Body 1.8x2.6mm, Pitch 0.4mm, TI Recommended)
pins: 1 DM_HOST (io) "USB DM connected to host", 2 DP_HOST (io) "USB DP connected to host", 3 TxD (io) "UART Tx", 4 RxD (io) "UART Rx", 5 VBAT (power) "Connected to battery", 6 BOOT (out) "BOOT mode out (push-pull). Used for factory test modes.", 7 ~{JIG} (hiz) "JIG detection JIG detection (Open-drain). Used for factory test modes", 8 VDDIO (power) "I/O voltage reference", 9 INTB (out) "Interrupt to host (push-pull)", 10 SCL (in) "I2C clock", 11 SDA (io) "I2C data", 12 GND (power) "Ground", 13 VBUS_IN (io) "VBUS connected to USB receptacle", 14 DM_CON (io) "USB DM connected to USB receptacle", 15 DP_CON (io) "USB DP connected to USB receptacle", 16 ID_CON (io) "USB ID connected to USB receptacle"

## TSU6111RSVR
designator U?
Dual SP2T Micro-USB Switch with integrated impedance and charger detection, 1:2 Switch, 8 ohm RON, -40 to 85 degC, 16-Pin UQFN (RSV), Green (RoHS & no Sb/Br); PartNumber: TSU6111RSVR; Manufacturer: Texas Instruments; Number of Channels: 2; ICC(uA): 75; OFF Time(Max)(ns): 3500; IL OFF(Max)(nA): 45; ron(max)(ohms): 8; RON Flatness(Max)(Ohms): 0.5; Bandwidth(MHz): 920; ON Time(Max)(ns): 95000; DatasheetVersion: SCDS325; PackageVersion: revD, Dec-2011; PackageReference: RSV16; PackageDescription: 16-Leads Plastic Quad Flatpack No-Lead, 2.6 x 1.8 x 0.5 mm Body, 0.4 mm Pitch; Mounting Technology: Surface Mount; Eco-Plan: Green (RoHS & no Sb/Br); SubFamily: USB Switch; Architecture: SP2T; ESD HBM(kV): 2; Code_JEDEC: MO-288*; ComponentLink1Description: Datasheet; ComponentLink1URL: http://www.ti.com/general/docs/lit/getliterature.tsp?genericPartNumber=TSU6111&fileType=pdf; ComponentLink2Description: Package Specification; ComponentLink2URL: http://www.ti.com/lit/ml/mpqf205c/mpqf205c.pdf
footprint RSV16 (QFN, 16-Leads, Body 1.8x2.6mm, Pitch 0.4mm, TI Recommended)
pins: 1 DM_HOST (io) "USB DM connected to host", 2 DP_HOST (io) "USB DP connected to host", 3 TXD (io) "UART Tx", 4 RXD (io) "UART Rx", 5 VBAT (power) "Connected to battery", 6 BOOT (out) "BOOT mode out (push-pull)", 7 ~{JIG} (hiz) "JIG detection (TSU6111 open-drain active low)", 8 VDDIO (power) "I/O voltage reference", 9 INTB (out) "Interrupt to host (push-pull)", 10 SCL (in) "I2C clock", 11 SDA (io) "I2C data", 12 GND (power) "Ground", 13 VBUS_IN (in) "VBUS connected to USB receptacle", 14 DM_CON (io) "USB DM connected to USB receptacle", 15 DP_CON (io) "USB DP connected to USB receptacle", 16 ID_CON (io) "USB ID connected to USB receptacle"

## TUSB1105RGTR
designator U?
Advanced USB Transciever, Full Speed, Single or Differential, +/-15 KV, -40 to 85 degC, 16-Pin QFN (RGT), Green (RoHS & no Sb/Br); PartNumber: TUSB1105RGTR; Manufacturer: Texas Instruments; SubFamily: USB Transceiver; DatasheetVersion: SCAS818E; PackageVersion: revH, Oct-2011; PackageReference: RGT16-1600X1600TP; PackageDescription: 16-Pin Plastic Quad Flatpack No-Lead, 3 x 3 mm Body, 0.5 mm Pitch; Mounting Technology: Surface Mount; Eco-Plan: Green (RoHS & no Sb/Br); ESD HBM(kV): +/-15; USB Speed: Full; Code_JEDEC: MO-220; ComponentLink1Description: Datasheet; ComponentLink1URL: http://www.ti.com/general/docs/lit/getliterature.tsp?genericPartNumber=TUSB1105&fileType=pdf; ComponentLink2Description: Package Specification; ComponentLink2URL: http://www.ti.com/litv/pdf/mpqf119g
footprint RGT16-1600X1600TP (QFN, 16-Leads, Body 3x3mm, Pitch 0.5mm, Thermal Pad 1.6x1.6mm, TI Recommended)
pins: 1 ~{OE} (in) "Output enable (CMOS level with respect to VCC(I/O), active LOW). Enables the transceiver to transmit data on the USB bus input pad. Push pull, CMOS.", 2 RCV (out) "Differential data receiver (CMOS level with respect to VCC(I/O)). Driven LOW when input SUSPND is HIGH. [see datasheet]", 3 VP (out) "Single-ended D+ receiver (CMOS level with respect to V). For external detection of single-ended zero (SE0), error conditions, speed of connected device. [see datasheet]", 4 VM (out) "Single-ended D- receiver (CMOS level with respect to VCC(I/O)). For external detection of single-ended zero (SE0), error conditions, speed of connected device. [see datasheet]", 5 SUSPND (in) "Suspend (CMOS level with respect to VCC(I/O)). A HIGH level enables low-power state while the USB bus is inactive and drives output RCV to a LOW-level input pad. Push pull, CMOS.", 6 MODE (in) "Mode (CMOS level with respect to VCC(I/O)). A HIGH level enables the differential input mode (VPO, VMO), whereas a LOW level enables a single-ended input mode (VO, FSE0). [see datasheet]", 7 VCC (I/O) (power) "Supply voltage for digital I/O pins (1.65 to 3.6 V). When VCC(I/O) is not connected, the D+ and D- pins are in 3-state. This supply pin is independent of VCC(5.0) and Vreg(3. [see datasheet]", 8 SPEED (in) "Speed selection (CMOS level with respect to VCC(I/O)). Adjusts the slew rate of differential data outputs D+ and D- according to the transmission speed. Input pad, push pull, CMOS. [see datasheet]", 9 D- (io) "Negative USB data bus connection (analog, differential). For low-speed mode, connect to pin Vpu(3.3) via a 1.5-kohm resistor.", 10 D+ (io) "Positive USB data bus connection (analog, differential). For full-speed mode, connect to pin Vpu(3.3) via a 1.5-kohm resistor.", 11 VPO/VO (in) "Driver data (CMOS level with respect to VCC(I/O), Schmitt trigger). [see datasheet]", 12 VMO/FSE0 (in) "Driver data (CMOS level with respect to VCC(I/O), Schmitt trigger). [see datasheet]", 13 VREG (3.3) (power) "Internal regulator option. Regulated supply-voltage output (3 V to 3.6 V) during 5-V operation. A decoupling capacitor of at least 0.1 mF is required for the regulator bypass option. [see datasheet]", 14 VCC (5.0) (power) "Internal regulator option. Supply-voltage input (4 V to 5.5 V). Can be connected directly to USB supply VBUS regulator bypass option. Connect toVreg(3.3)", 15 VPU (3.3) (power) "Pullup supply voltage (3.3 V +/- 10%). Connect an external 1.5-kohm resistor on D+ (full speed) or D- (low speed). Pin function is controlled by input SOFTCON. SOFTCON = LOW ?Vpu(3. [see datasheet]", 16 SOFTCON (in) "Software-controlled USB connection. A HIGH level applies 3.3 V to pin Vpu(3.3), which is connected to an external 1.5-kohm pullup resistor. [see datasheet]", 17 EP (power) "Exposed Thermal Pad"

## TUSB1105RGTRG4
designator U?
Advanced USB Transciever, Full Speed, Single or Differential, +/-15 KV, -40 to 85 degC, 16-Pin QFN (RGT), Green (RoHS & no Sb/Br); PartNumber: TUSB1105RGTRG4; Manufacturer: Texas Instruments; SubFamily: USB Transceiver; DatasheetVersion: SCAS818E; PackageVersion: revH, Oct-2011; PackageReference: RGT16-1600X1600TP; PackageDescription: 16-Pin Plastic Quad Flatpack No-Lead, 3 x 3 mm Body, 0.5 mm Pitch; Mounting Technology: Surface Mount; Eco-Plan: Green (RoHS & no Sb/Br); ESD HBM(kV): +/-15; USB Speed: Full; Code_JEDEC: MO-220; ComponentLink1Description: Datasheet; ComponentLink1URL: http://www.ti.com/general/docs/lit/getliterature.tsp?genericPartNumber=TUSB1105&fileType=pdf; ComponentLink2Description: Package Specification; ComponentLink2URL: http://www.ti.com/litv/pdf/mpqf119g
footprint RGT16-1600X1600TP (QFN, 16-Leads, Body 3x3mm, Pitch 0.5mm, Thermal Pad 1.6x1.6mm, TI Recommended)
pins: 1 ~{OE} (in) "Output enable (CMOS level with respect to VCC(I/O), active LOW). Enables the transceiver to transmit data on the USB bus input pad. Push pull, CMOS.", 2 RCV (out) "Differential data receiver (CMOS level with respect to VCC(I/O)). Driven LOW when input SUSPND is HIGH. [see datasheet]", 3 VP (out) "Single-ended D+ receiver (CMOS level with respect to V). For external detection of single-ended zero (SE0), error conditions, speed of connected device. [see datasheet]", 4 VM (out) "Single-ended D- receiver (CMOS level with respect to VCC(I/O)). For external detection of single-ended zero (SE0), error conditions, speed of connected device. [see datasheet]", 5 SUSPND (in) "Suspend (CMOS level with respect to VCC(I/O)). A HIGH level enables low-power state while the USB bus is inactive and drives output RCV to a LOW-level input pad. Push pull, CMOS.", 6 MODE (in) "Mode (CMOS level with respect to VCC(I/O)). A HIGH level enables the differential input mode (VPO, VMO), whereas a LOW level enables a single-ended input mode (VO, FSE0). [see datasheet]", 7 VCC (I/O) (power) "Supply voltage for digital I/O pins (1.65 to 3.6 V). When VCC(I/O) is not connected, the D+ and D- pins are in 3-state. This supply pin is independent of VCC(5.0) and Vreg(3. [see datasheet]", 8 SPEED (in) "Speed selection (CMOS level with respect to VCC(I/O)). Adjusts the slew rate of differential data outputs D+ and D- according to the transmission speed. Input pad, push pull, CMOS. [see datasheet]", 9 D- (io) "Negative USB data bus connection (analog, differential). For low-speed mode, connect to pin Vpu(3.3) via a 1.5-kohm resistor.", 10 D+ (io) "Positive USB data bus connection (analog, differential). For full-speed mode, connect to pin Vpu(3.3) via a 1.5-kohm resistor.", 11 VPO/VO (in) "Driver data (CMOS level with respect to VCC(I/O), Schmitt trigger). [see datasheet]", 12 VMO/FSE0 (in) "Driver data (CMOS level with respect to VCC(I/O), Schmitt trigger). [see datasheet]", 13 VREG (3.3) (power) "Internal regulator option. Regulated supply-voltage output (3 V to 3.6 V) during 5-V operation. A decoupling capacitor of at least 0.1 mF is required for the regulator bypass option. [see datasheet]", 14 VCC (5.0) (power) "Internal regulator option. Supply-voltage input (4 V to 5.5 V). Can be connected directly to USB supply VBUS regulator bypass option. Connect toVreg(3.3)", 15 VPU (3.3) (power) "Pullup supply voltage (3.3 V +/- 10%). Connect an external 1.5-kohm resistor on D+ (full speed) or D- (low speed). Pin function is controlled by input SOFTCON. SOFTCON = LOW ?Vpu(3. [see datasheet]", 16 SOFTCON (in) "Software-controlled USB connection. A HIGH level applies 3.3 V to pin Vpu(3.3), which is connected to an external 1.5-kohm pullup resistor. [see datasheet]", 17 EP (power) "Exposed Thermal Pad"

## TUSB1105RTZR
designator U?
Advanced USB Transciever, Full Speed, Single or Differential, +/-15 KV, -40 to 85 degC, 16-Pin WQFN (RTZ), Green (RoHS & no Sb/Br); PartNumber: TUSB1105RTZR; Manufacturer: Texas Instruments; SubFamily: USB Transceiver; DatasheetVersion: SCAS818E; PackageVersion: revD, Apr-2011; PackageReference: RTZ16-1400X1400TP; PackageDescription: 16-Pin Plastic Quad Flatpack No-Lead, 3 x 3 mm Body, 0.5 mm Pitch; Mounting Technology: Surface Mount; Eco-Plan: Green (RoHS & no Sb/Br); ESD HBM(kV): +/-15; USB Speed: Full; ComponentLink1Description: Datasheet; ComponentLink1URL: http://www.ti.com/general/docs/lit/getliterature.tsp?genericPartNumber=TUSB1105&fileType=pdf; ComponentLink2Description: Package Specification; ComponentLink2URL: http://www.ti.com/lit/ml/mpqf177c/mpqf177c.pdf
footprint RTZ16-1400X1400TP (PQFN, 16-Leads, Body 3x3mm, Pitch 0.5mm, Thermal Pad 1.4x1.4mm, TI Recommended)
pins: 1 ~{OE} (in) "Output enable (CMOS level with respect to VCC(I/O), active LOW). Enables the transceiver to transmit data on the USB bus input pad. Push pull, CMOS.", 2 RCV (out) "Differential data receiver (CMOS level with respect to VCC(I/O)). Driven LOW when input SUSPND is HIGH. The output state of RCV is preserved and stable during an SE0 condition output pad. Push pull, 4-mA output drive, CMOS.", 3 VP (out) "Single-ended D+ receiver (CMOS level with respect to V). For external detection of single-ended zero (SE0), error conditions, speed of connected device. Driven HIGH when no supply voltage is connected to VCC(5.0) andVreg(3.(See Datasheet)", 4 VM (out) "Single-ended D- receiver (CMOS level with respect to VCC(I/O)). For external detection of single-ended zero (SE0), error conditions, speed of connected device. Driven HIGH when no supply voltage is connected to VCC(5.0) and (See Datasheet)", 5 SUSPND (in) "Suspend (CMOS level with respect to VCC(I/O)). A HIGH level enables low-power state while the USB bus is inactive and drives output RCV to a LOW-level input pad. Push pull, CMOS.", 6 MODE (in) "Mode (CMOS level with respect to VCC(I/O)). A HIGH level enables the differential input mode (VPO, VMO), whereas a LOW level enables a single-ended input mode (VO, FSE0). See Table 5 and Table 6 input pad. Push pull, CMOS.", 7 VCC (I/O) (power) "Supply voltage for digital I/O pins (1.65 to 3.6 V). When VCC(I/O) is not connected, the D+ and D- pins are in 3-state. This supply pin is independent of VCC(5.0) and Vreg(3.3) and must never exceed the Vreg(3.3) voltage.", 8 SPEED (in) "Speed selection (CMOS level with respect to VCC(I/O)). Adjusts the slew rate of differential data outputs D+ and D- according to the transmission speed. Input pad, push pull, CMOS. LOW - low speed (1.5 Mbit/s) HIGH - full (See Datasheet)", 9 D- (io) "Negative USB data bus connection (analog, differential). For low-speed mode, connect to pin Vpu(3.3) via a 1.5 k ohm resistor.", 10 D+ (io) "Positive USB data bus connection (analog, differential). For full-speed mode, connect to pin Vpu(3.3) via a 1.5 k ohm resistor.", 11 VPO/VO (in) "Driver data (CMOS level with respect to VCC(I/O), Schmitt trigger). See Driving Function Table (pin O\E\ = L) using single-ended input data interface for TUSB1105 (pin MODE = L), and Driving Function Table (pin O\E\ = L) (See Datasheet)", 12 VMO/FSE0 (in) "Driver data (CMOS level with respect to VCC(I/O), Schmitt trigger). See Driving Function Table (pin O\E\ = L) using single-ended input data interface for TUSB1105 (pin MODE = L), and Driving Function Table (pin O\E\ = L) (See Datasheet)", 13 VREG (3.3) (power) "Internal regulator option. Regulated supply-voltage output (3 V to 3.6 V) during 5-V operation. A decoupling capacitor of at least 0.1 mF is required for the regulator bypass option. Used as a supply-voltage input for 3.3 V (See Datasheet)", 14 VCC (5.0) (power) "Internal regulator option. Supply-voltage input (4 V to 5.5 V). Can be connected directly to USB supply VBUS regulator bypass option. Connect to Vreg(3.3).", 15 VPU (3.3) (power) "Pullup supply voltage (3.3 V+/-10%). Connect an external 1.5k ohm resistor on Pullup supply voltage (3.3 V +/- 10%). Connect an external 1.5-k ohm resistor on SOFTCON.SOFTCON = LOW - Vpu(3.3) current SOFTCON = LOW - Vpu(3.3)", 16 SOFTCON (in) "Software-controlled USB connection. A HIGH level applies 3.3 V to pin Vpu(3.3), which is connected to an external 1.5k ohm pullup resistor. This allows USB connect/disconnect signaling to be controlled by software input pad.(See Datasheet)", 17 EP (power) "Exposed Thermal Pad"

## TUSB1105RTZRG4
designator U?
Advanced USB Transciever, Full Speed, Single or Differential, +/-15 KV, -40 to 85 degC, 16-Pin WQFN (RTZ), Green (RoHS & no Sb/Br); PartNumber: TUSB1105RTZRG4; Manufacturer: Texas Instruments; SubFamily: USB Transceiver; DatasheetVersion: SCAS818E; PackageVersion: revD, Apr-2011; PackageReference: RTZ16-1400X1400TP; PackageDescription: 16-Pin Plastic Quad Flatpack No-Lead, 3 x 3 mm Body, 0.5 mm Pitch; Mounting Technology: Surface Mount; Eco-Plan: Green (RoHS & no Sb/Br); ESD HBM(kV): +/-15; USB Speed: Full; ComponentLink1Description: Datasheet; ComponentLink1URL: http://www.ti.com/general/docs/lit/getliterature.tsp?genericPartNumber=TUSB1105&fileType=pdf; ComponentLink2Description: Package Specification; ComponentLink2URL: http://www.ti.com/lit/ml/mpqf177c/mpqf177c.pdf
footprint RTZ16-1400X1400TP (PQFN, 16-Leads, Body 3x3mm, Pitch 0.5mm, Thermal Pad 1.4x1.4mm, TI Recommended)
pins: 1 ~{OE} (in) "Output enable (CMOS level with respect to VCC(I/O), active LOW). Enables the transceiver to transmit data on the USB bus input pad. Push pull, CMOS.", 2 RCV (out) "Differential data receiver (CMOS level with respect to VCC(I/O)). Driven LOW when input SUSPND is HIGH. The output state of RCV is preserved and stable during an SE0 condition output pad. Push pull, 4-mA output drive, CMOS.", 3 VP (out) "Single-ended D+ receiver (CMOS level with respect to V). For external detection of single-ended zero (SE0), error conditions, speed of connected device. Driven HIGH when no supply voltage is connected to VCC(5.0) andVreg(3.(See Datasheet)", 4 VM (out) "Single-ended D- receiver (CMOS level with respect to VCC(I/O)). For external detection of single-ended zero (SE0), error conditions, speed of connected device. Driven HIGH when no supply voltage is connected to VCC(5.0) and (See Datasheet)", 5 SUSPND (in) "Suspend (CMOS level with respect to VCC(I/O)). A HIGH level enables low-power state while the USB bus is inactive and drives output RCV to a LOW-level input pad. Push pull, CMOS.", 6 MODE (in) "Mode (CMOS level with respect to VCC(I/O)). A HIGH level enables the differential input mode (VPO, VMO), whereas a LOW level enables a single-ended input mode (VO, FSE0). See Table 5 and Table 6 input pad. Push pull, CMOS.", 7 VCC (I/O) (power) "Supply voltage for digital I/O pins (1.65 to 3.6 V). When VCC(I/O) is not connected, the D+ and D- pins are in 3-state. This supply pin is independent of VCC(5.0) and Vreg(3.3) and must never exceed the Vreg(3.3) voltage.", 8 SPEED (in) "Speed selection (CMOS level with respect to VCC(I/O)). Adjusts the slew rate of differential data outputs D+ and D- according to the transmission speed. Input pad, push pull, CMOS. LOW - low speed (1.5 Mbit/s) HIGH - full (See Datasheet)", 9 D- (io) "Negative USB data bus connection (analog, differential). For low-speed mode, connect to pin Vpu(3.3) via a 1.5 k ohm resistor.", 10 D+ (io) "Positive USB data bus connection (analog, differential). For full-speed mode, connect to pin Vpu(3.3) via a 1.5 k ohm resistor.", 11 VPO/VO (in) "Driver data (CMOS level with respect to VCC(I/O), Schmitt trigger). See Driving Function Table (pin O\E\ = L) using single-ended input data interface for TUSB1105 (pin MODE = L), and Driving Function Table (pin O\E\ = L) (See Datasheet)", 12 VMO/FSE0 (in) "Driver data (CMOS level with respect to VCC(I/O), Schmitt trigger). See Driving Function Table (pin O\E\ = L) using single-ended input data interface for TUSB1105 (pin MODE = L), and Driving Function Table (pin O\E\ = L) (See Datasheet)", 13 VREG (3.3) (power) "Internal regulator option. Regulated supply-voltage output (3 V to 3.6 V) during 5-V operation. A decoupling capacitor of at least 0.1 mF is required for the regulator bypass option. Used as a supply-voltage input for 3.3 V (See Datasheet)", 14 VCC (5.0) (power) "Internal regulator option. Supply-voltage input (4 V to 5.5 V). Can be connected directly to USB supply VBUS regulator bypass option. Connect to Vreg(3.3).", 15 VPU (3.3) (power) "Pullup supply voltage (3.3 V+/-10%). Connect an external 1.5k ohm resistor on Pullup supply voltage (3.3 V +/- 10%). Connect an external 1.5-k ohm resistor on SOFTCON.SOFTCON = LOW - Vpu(3.3) current SOFTCON = LOW - Vpu(3.3)", 16 SOFTCON (in) "Software-controlled USB connection. A HIGH level applies 3.3 V to pin Vpu(3.3), which is connected to an external 1.5k ohm pullup resistor. This allows USB connect/disconnect signaling to be controlled by software input pad.(See Datasheet)", 17 EP (power) "Exposed Thermal Pad"